# EAGLE library part PCA9956BTWY (library leds)
NXP - PCA9956BTWY - LED DRIVER, CONSTANT CURRENT, HTSSOP-38 Source: Datasheet <https://www.mouser.be/datasheet/2/302/PCA9956B-1127643.pdf>
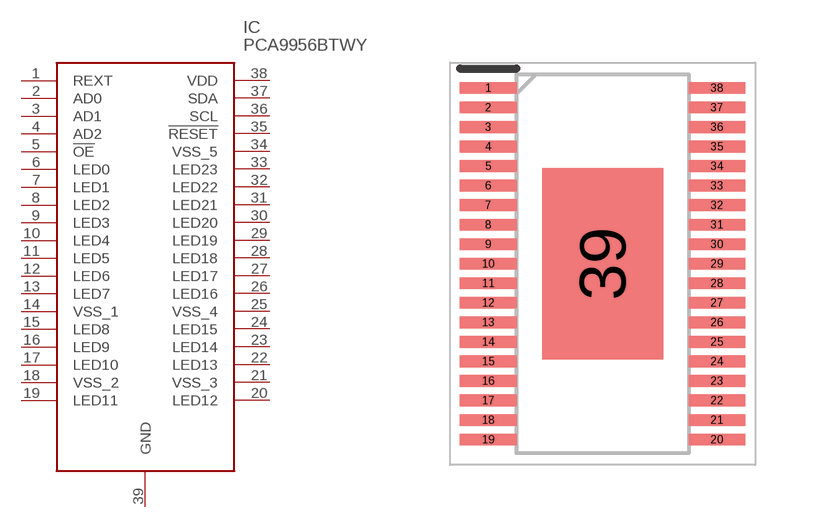
[diagram p2: symbol with the pads of SOP50P640X110-39N; footprint SOP50P640X110-39N]

Designator prefix IC

## PCA9956BTWY (DESCRIPTION: NXP - PCA9956BTWY - LED DRIVER, CONSTANT CURRENT, HTSSOP-38; HEIGHT: 1.1mm; MANUFACTURER_NAME: NXP; MANUFACTURER_PART_NUMBER: PCA9956BTWY; MOUSER_PART_NUMBER: 771-PCA9956BTWY)  [SOP50P640X110-39N]
1  REXT
2  AD0
3  AD1
4  AD2
5  !OE
6  LED0
7  LED1
8  LED2
9  LED3
10  LED4
11  LED5
12  LED6
13  LED7
14  VSS_1
15  LED8
16  LED9
17  LED10
18  VSS_2
19  LED11
20  LED12
21  VSS_3
22  LED13
23  LED14
24  LED15
25  VSS_4
26  LED16
27  LED17
28  LED18
29  LED19
30  LED20
31  LED21
32  LED22
33  LED23
34  VSS_5
35  !RESET
36  SCL
37  SDA
38  VDD
39  GND

## Footprint SOP50P640X110-39N (pad centres in mm)
PCA9956BTWY
smd 1.45 x 0.3: 1 -2.925,4.5; 2 -2.925,4; 3 -2.925,3.5; 4 -2.925,3; 5 -2.925,2.5; 6 -2.925,2; 7 -2.925,1.5; 8 -2.925,1; 9 -2.925,0.5; 10 -2.925,0; 11 -2.925,-0.5; 12 -2.925,-1; 13 -2.925,-1.5; 14 -2.925,-2; 15 -2.925,-2.5; 16 -2.925,-3; 17 -2.925,-3.5; 18 -2.925,-4; 19 -2.925,-4.5; 20 2.925,-4.5; 21 2.925,-4; 22 2.925,-3.5; 23 2.925,-3; 24 2.925,-2.5; 25 2.925,-2; 26 2.925,-1.5; 27 2.925,-1; 28 2.925,-0.5; 29 2.925,0; 30 2.925,0.5; 31 2.925,1; 32 2.925,1.5; 33 2.925,2; 34 2.925,2.5; 35 2.925,3; 36 2.925,3.5; 37 2.925,4; 38 2.925,4.5
smd 3.1 x 4.9: 39 0,0